# Altium integrated library Microchip PIC18.IntLib: 1897 symbols (part 12 of 110)
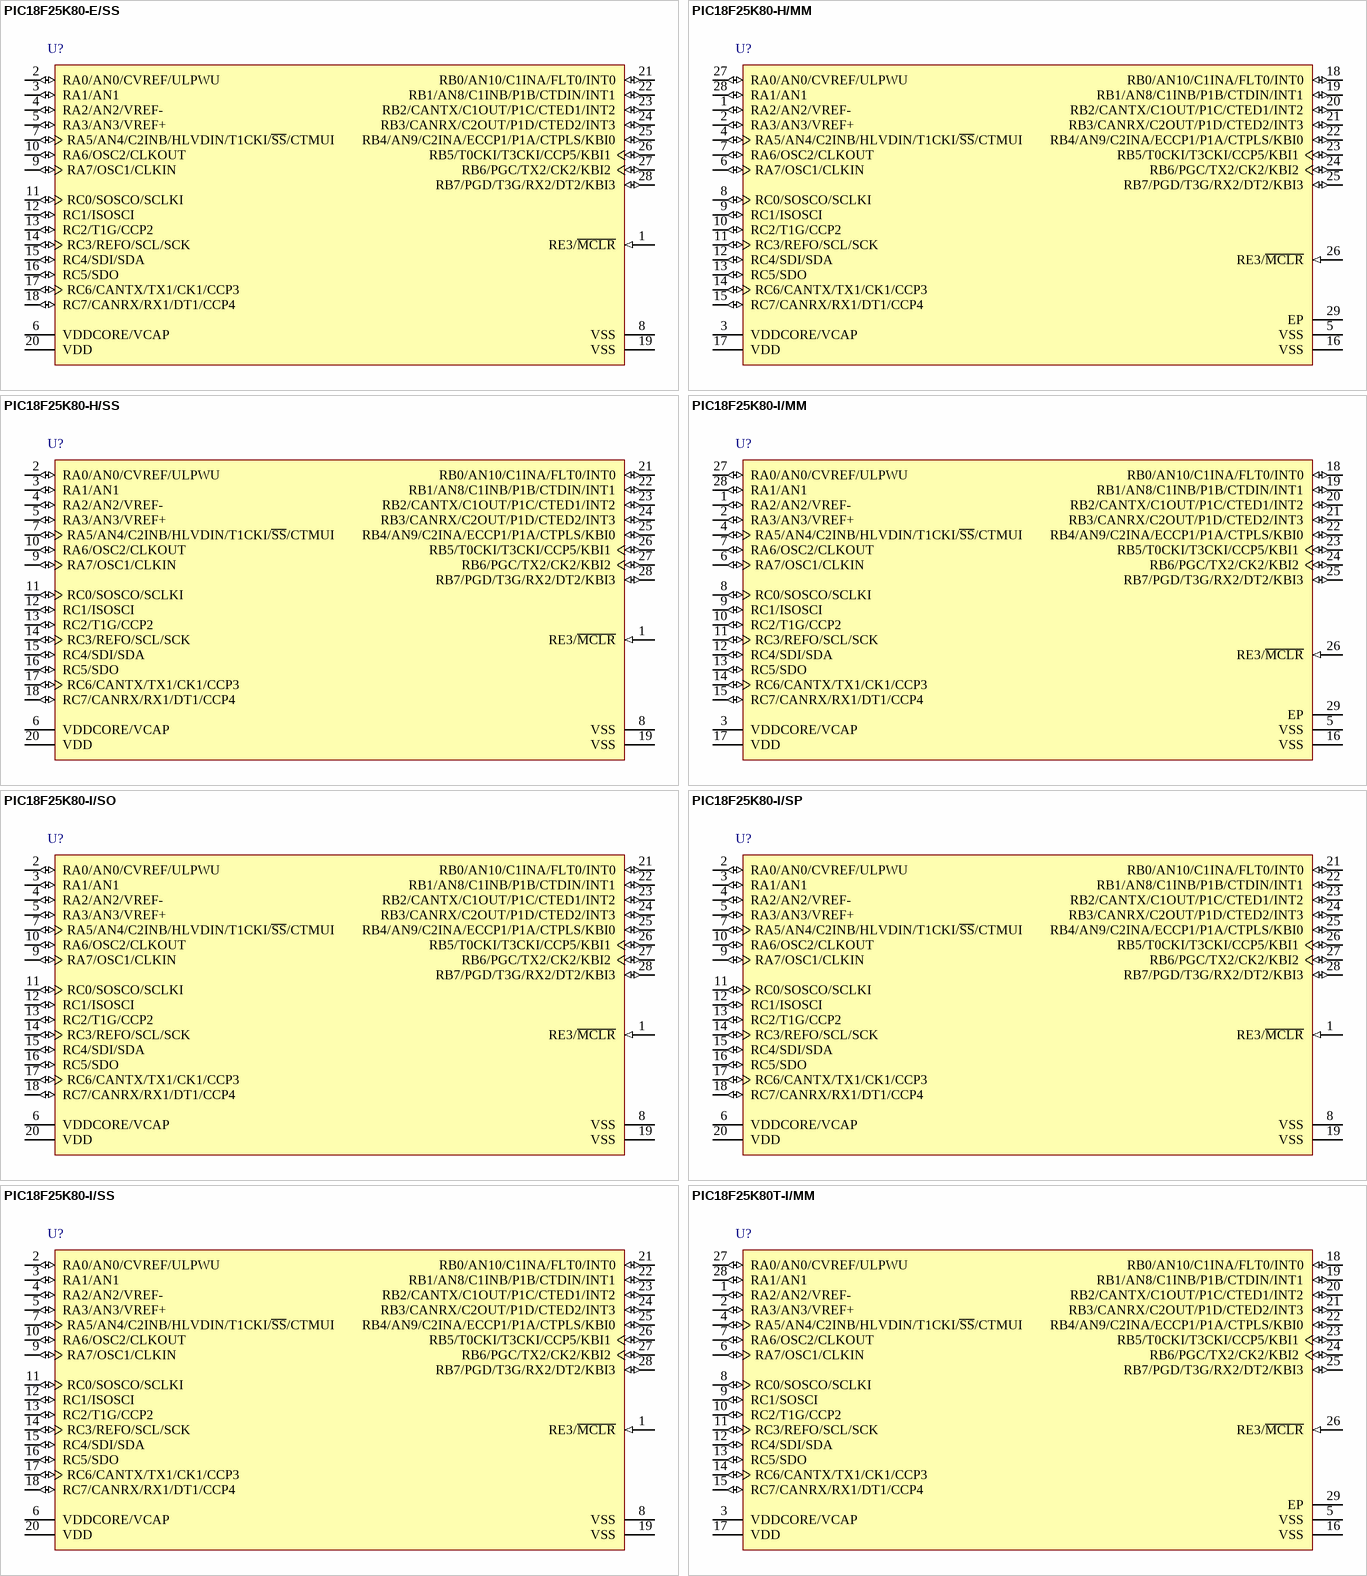
[diagram p328: symbols PIC18F25K80-E/SS to PIC18F25K80T-I/MM]

## PIC18F25K80-I/SO
designator U?
Enhanced Flash Microcontroller with ECAN(TM) and nanoWatt XLP Technology, 64 MHz, 24 I/O, -40 to 85 degC, 28-pin SOIC (SO28), Tube; Manufacturer: Microchip; PartNumber: PIC18F25K80-I/SO; # of A/D Channels: 8; Digital Communication: 2 -A/E/USART, 1 -MSSP(SPI/I2C); EEPROM Data Memory (bytes): 1024; I/O Pins: 24; Internal Oscillator: 16 MHz, 31 kHz; Max. CPU Speed MHz: 64; Operation Voltage Range: 1.8V - 5.5V; Program Memory KBytes: 32; Program Memory KWords: 16; RAM: 3648; Timers: 2 - 8-bit, 3 - 16-bit; DatasheetVersion: Rev. F; PackageVersion: C04-052C, 12/2012; PackageReference: SOIC-SO28; PackageDescription: 28-Lead Plastic Small Outline, 17.9 x 7.5 mm Body, 1.27 mm Pitch; Supplier 1: Digi-Key; Supplier Part Number 1: PIC18F25K80-I/SO-ND; Supplier 2: Farnell; Supplier Part Number 2: 1823159; Supplier 3: Newark; Supplier Part Number 3: 76R6675; Supplier 4: Mouser; Supplier Part Number 4: 579-PIC18F25K80-I/SO; Memory Type: Flash; Packing: TUBE; RoHS: TRUE; Mounting Technology: Surface Mount; ComponentLink1Description: Datasheet; ComponentLink1URL: http://ww1.microchip.com/downloads/en/DeviceDoc/39977f.pdf; ComponentLink2Description: Package Specification; ComponentLink2URL: http://www.microchip.com/stellent/groups/techpub_sg/documents/packagingspec/en012702.pdf; ComponentLink3Description: URL Link1; ComponentLink3URL: Product URL:http://www.microchip.com/datasheet/PIC18F25K80
footprint MCHP-SOIC-SO28_N (SOIC, 28-Leads, Body 17.9x7.5mm, Pitch 1.27mm, IPC Medium Density)
footprint MCHP-SOIC-SO28_L (SOIC, 28-Leads, Body 17.9x7.5mm, Pitch 1.27mm, IPC High Density)
footprint MCHP-SOIC-SO28_M (SOIC, 28-Leads, Body 17.9x7.5mm, Pitch 1.27mm, IPC Low Density)
pins: 1 RE3/~{MCLR} (in), 2 RA0/AN0/CVREF/ULPWU (io), 3 RA1/AN1 (io), 4 RA2/AN2/VREF- (io), 5 RA3/AN3/VREF+ (io), 6 VDDCORE/VCAP (power), 7 RA5/AN4/C2INB/HLVDIN/T1CKI/~{SS}/CTMUI (io), 8 VSS (power) "Ground reference for logic and I/O pins.", 9 RA7/OSC1/CLKIN (io), 10 RA6/OSC2/CLKOUT (io), 11 RC0/SOSCO/SCLKI (io), 12 RC1/ISOSCI (io), 13 RC2/T1G/CCP2 (io), 14 RC3/REFO/SCL/SCK (io), 15 RC4/SDI/SDA (io), 16 RC5/SDO (io), 17 RC6/CANTX/TX1/CK1/CCP3 (io), 18 RC7/CANRX/RX1/DT1/CCP4 (io), 19 VSS (power) "Ground reference for logic and I/O pins.", 20 VDD (power) "Positive supply for logic and I/O pins.", 21 RB0/AN10/C1INA/FLT0/INT0 (io), 22 RB1/AN8/C1INB/P1B/CTDIN/INT1 (io), 23 RB2/CANTX/C1OUT/P1C/CTED1/INT2 (io), 24 RB3/CANRX/C2OUT/P1D/CTED2/INT3 (io), 25 RB4/AN9/C2INA/ECCP1/P1A/CTPLS/KBI0 (io), 26 RB5/T0CKI/T3CKI/CCP5/KBI1 (io), 27 RB6/PGC/TX2/CK2/KBI2 (io), 28 RB7/PGD/T3G/RX2/DT2/KBI3 (io)

## PIC18F25K80-I/SP
designator U?
Enhanced Flash Microcontroller with ECAN(TM) and nanoWatt XLP Technology, 64 MHz, 24 I/O, -40 to 85 degC, 28-pin SPDIP (SP28), Tube; Manufacturer: Microchip; PartNumber: PIC18F25K80-I/SP; # of A/D Channels: 8; Digital Communication: 2 -A/E/USART, 1 -MSSP(SPI/I2C); EEPROM Data Memory (bytes): 1024; I/O Pins: 24; Internal Oscillator: 16 MHz, 31 kHz; Max. CPU Speed MHz: 64; Operation Voltage Range: 1.8V - 5.5V; Program Memory KBytes: 32; Program Memory KWords: 16; RAM: 3648; Timers: 2 - 8-bit, 3 - 16-bit; DatasheetVersion: Rev. F; PackageVersion: C04-070B, 12/2012; PackageReference: SPDIP-SP28; PackageDescription: 28-Lead Plastic Dual In-Line, 34.86 x 6.79 mm Body, 2.54 mm Pitch; Supplier 1: Digi-Key; Supplier Part Number 1: PIC18F25K80-I/SP-ND; Supplier 2: Farnell; Supplier Part Number 2: 1823160; Supplier 3: Newark; Supplier Part Number 3: 76R6676; Supplier 4: Newark; Supplier Part Number 4: 82T9594; Supplier 5: Mouser; Supplier Part Number 5: 579-PIC18F25K80-I/SP; Memory Type: Flash; Packing: TUBE; RoHS: TRUE; Mounting Technology: Through Hole; ComponentLink1Description: Datasheet; ComponentLink1URL: http://ww1.microchip.com/downloads/en/DeviceDoc/39977f.pdf; ComponentLink2Description: Package Specification; ComponentLink2URL: http://www.microchip.com/stellent/groups/techpub_sg/documents/packagingspec/en012702.pdf; ComponentLink3Description: URL Link1; ComponentLink3URL: Product URL:http://www.microchip.com/datasheet/PIC18F25K80
footprint MCHP-SPDIP-SP28 (DIP, 28-Leads, Body 34.86x6.79mm, Pitch 2.54mm)
pins: 1 RE3/~{MCLR} (in), 2 RA0/AN0/CVREF/ULPWU (io), 3 RA1/AN1 (io), 4 RA2/AN2/VREF- (io), 5 RA3/AN3/VREF+ (io), 6 VDDCORE/VCAP (power), 7 RA5/AN4/C2INB/HLVDIN/T1CKI/~{SS}/CTMUI (io), 8 VSS (power) "Ground reference for logic and I/O pins.", 9 RA7/OSC1/CLKIN (io), 10 RA6/OSC2/CLKOUT (io), 11 RC0/SOSCO/SCLKI (io), 12 RC1/ISOSCI (io), 13 RC2/T1G/CCP2 (io), 14 RC3/REFO/SCL/SCK (io), 15 RC4/SDI/SDA (io), 16 RC5/SDO (io), 17 RC6/CANTX/TX1/CK1/CCP3 (io), 18 RC7/CANRX/RX1/DT1/CCP4 (io), 19 VSS (power) "Ground reference for logic and I/O pins.", 20 VDD (power) "Positive supply for logic and I/O pins.", 21 RB0/AN10/C1INA/FLT0/INT0 (io), 22 RB1/AN8/C1INB/P1B/CTDIN/INT1 (io), 23 RB2/CANTX/C1OUT/P1C/CTED1/INT2 (io), 24 RB3/CANRX/C2OUT/P1D/CTED2/INT3 (io), 25 RB4/AN9/C2INA/ECCP1/P1A/CTPLS/KBI0 (io), 26 RB5/T0CKI/T3CKI/CCP5/KBI1 (io), 27 RB6/PGC/TX2/CK2/KBI2 (io), 28 RB7/PGD/T3G/RX2/DT2/KBI3 (io)

## PIC18F25K80-I/SS
designator U?
Enhanced Flash Microcontroller with ECAN(TM) and nanoWatt XLP Technology, 64 MHz, 24 I/O, -40 to 85 degC, 28-pin SSOP (SS28), Tube; Manufacturer: Microchip; PartNumber: PIC18F25K80-I/SS; # of A/D Channels: 8; Digital Communication: 2 -A/E/USART, 1 -MSSP(SPI/I2C); EEPROM Data Memory (bytes): 1024; I/O Pins: 24; Internal Oscillator: 16 MHz, 31 kHz; Max. CPU Speed MHz: 64; Operation Voltage Range: 1.8V - 5.5V; Program Memory KBytes: 32; Program Memory KWords: 16; RAM: 3648; Timers: 2 - 8-bit, 3 - 16-bit; DatasheetVersion: Rev. F; PackageVersion: C04-073B, 12/2012; PackageReference: SSOP-SS28; PackageDescription: 28-Lead Plastic Shrink Small Outline, 10.2 x 5.3 mm Body, 0.65 mm Pitch; Supplier 1: Digi-Key; Supplier Part Number 1: PIC18F25K80-I/SS-ND; Supplier 2: Farnell; Supplier Part Number 2: 1823161; Supplier 3: Newark; Supplier Part Number 3: 76R6677; Supplier 4: Newark; Supplier Part Number 4: 55T3694; Supplier 5: Mouser; Supplier Part Number 5: 579-PIC18F25K80-I/SS; Memory Type: Flash; Packing: TUBE; RoHS: TRUE; Mounting Technology: Surface Mount; ComponentLink1Description: Datasheet; ComponentLink1URL: http://ww1.microchip.com/downloads/en/DeviceDoc/39977f.pdf; ComponentLink2Description: Package Specification; ComponentLink2URL: http://www.microchip.com/stellent/groups/techpub_sg/documents/packagingspec/en012702.pdf; ComponentLink3Description: URL Link1; ComponentLink3URL: Product URL:http://www.microchip.com/datasheet/PIC18F25K80
footprint MCHP-SSOP-SS28_N (SOP, 28-Leads, Body 10.2x5.3mm, Pitch 0.65mm, IPC Medium Density)
footprint MCHP-SSOP-SS28_L (SOP, 28-Leads, Body 10.2x5.3mm, Pitch 0.65mm, IPC High Density)
footprint MCHP-SSOP-SS28_M (SOP, 28-Leads, Body 10.2x5.3mm, Pitch 0.65mm, IPC Low Density)
pins: 1 RE3/~{MCLR} (in), 2 RA0/AN0/CVREF/ULPWU (io), 3 RA1/AN1 (io), 4 RA2/AN2/VREF- (io), 5 RA3/AN3/VREF+ (io), 6 VDDCORE/VCAP (power), 7 RA5/AN4/C2INB/HLVDIN/T1CKI/~{SS}/CTMUI (io), 8 VSS (power) "Ground reference for logic and I/O pins.", 9 RA7/OSC1/CLKIN (io), 10 RA6/OSC2/CLKOUT (io), 11 RC0/SOSCO/SCLKI (io), 12 RC1/ISOSCI (io), 13 RC2/T1G/CCP2 (io), 14 RC3/REFO/SCL/SCK (io), 15 RC4/SDI/SDA (io), 16 RC5/SDO (io), 17 RC6/CANTX/TX1/CK1/CCP3 (io), 18 RC7/CANRX/RX1/DT1/CCP4 (io), 19 VSS (power) "Ground reference for logic and I/O pins.", 20 VDD (power) "Positive supply for logic and I/O pins.", 21 RB0/AN10/C1INA/FLT0/INT0 (io), 22 RB1/AN8/C1INB/P1B/CTDIN/INT1 (io), 23 RB2/CANTX/C1OUT/P1C/CTED1/INT2 (io), 24 RB3/CANRX/C2OUT/P1D/CTED2/INT3 (io), 25 RB4/AN9/C2INA/ECCP1/P1A/CTPLS/KBI0 (io), 26 RB5/T0CKI/T3CKI/CCP5/KBI1 (io), 27 RB6/PGC/TX2/CK2/KBI2 (io), 28 RB7/PGD/T3G/RX2/DT2/KBI3 (io)

## PIC18F25K80T-I/MM
designator U?
Enhanced Flash Microcontroller with ECAN(TM) and nanoWatt XLP Technology, 64 MHz, 24 I/O, -40 to 85 degC, 28-pin QFN (MM28), Tape and Reel; Manufacturer: Microchip; PartNumber: PIC18F25K80T-I/MM; # of A/D Channels: 8; Digital Communication: 2 -A/E/USART, 1 -MSSP(SPI/I2C); EEPROM Data Memory (bytes): 1024; I/O Pins: 24; Internal Oscillator: 16 MHz, 31 kHz; Max. CPU Speed MHz: 64; Operation Voltage Range: 1.8V - 5.5V; Packing: T/R; Program Memory KBytes: 32; Program Memory KWords: 16; RAM: 3648; Timers: 2 - 8-bit, 3 - 16-bit; DatasheetVersion: Rev. F; PackageVersion: C04-124C, 12/2012; PackageReference: QFN-MM28; PackageDescription: 28-Lead Plastic Quad Flat, 6 x 6 mm Body, 0.65 mm Pitch; Supplier 1: Digi-Key; Supplier Part Number 1: PIC18F25K80T-I/MM-ND; Supplier 2: Mouser; Supplier Part Number 2: 579-PIC18F25K80T-IMM; Memory Type: Flash; RoHS: TRUE; Mounting Technology: Surface Mount; ComponentLink1Description: Datasheet; ComponentLink1URL: http://ww1.microchip.com/downloads/en/DeviceDoc/39977f.pdf; ComponentLink2Description: Package Specification; ComponentLink2URL: http://www.microchip.com/stellent/groups/techpub_sg/documents/packagingspec/en012702.pdf; ComponentLink3Description: URL Link1; ComponentLink3URL: Product URL:http://www.microchip.com/datasheet/PIC18F25K80
footprint MCHP-QFN-S-MM28_N (QFN, 28-Leads, Body 6x6mm, Pitch 0.65mm, Thermal Pad 4.175x4.175mm, IPC Medium Density)
footprint MCHP-QFN-S-MM28_L (QFN, 28-Leads, Body 6x6mm, Pitch 0.65mm, Thermal Pad 4.175x4.175mm, IPC High Density)
footprint MCHP-QFN-S-MM28_M (QFN, 28-Leads, Body 6x6mm, Pitch 0.65mm, Thermal Pad 4.175x4.175mm, IPC Low Density)
pins: 1 RA2/AN2/VREF- (io), 2 RA3/AN3/VREF+ (io), 3 VDDCORE/VCAP (power), 4 RA5/AN4/C2INB/HLVDIN/T1CKI/~{SS}/CTMUI (io), 5 VSS (power) "Ground reference for logic and I/O pins.", 6 RA7/OSC1/CLKIN (io), 7 RA6/OSC2/CLKOUT (io), 8 RC0/SOSCO/SCLKI (io), 9 RC1/SOSCI (io), 10 RC2/T1G/CCP2 (io), 11 RC3/REFO/SCL/SCK (io), 12 RC4/SDI/SDA (io), 13 RC5/SDO (io), 14 RC6/CANTX/TX1/CK1/CCP3 (io), 15 RC7/CANRX/RX1/DT1/CCP4 (io), 16 VSS (power) "Ground reference for logic and I/O pins.", 17 VDD (power) "Positive supply for logic and I/O pins.", 18 RB0/AN10/C1INA/FLT0/INT0 (io), 19 RB1/AN8/C1INB/P1B/CTDIN/INT1 (io), 20 RB2/CANTX/C1OUT/P1C/CTED1/INT2 (io), 21 RB3/CANRX/C2OUT/P1D/CTED2/INT3 (io), 22 RB4/AN9/C2INA/ECCP1/P1A/CTPLS/KBI0 (io), 23 RB5/T0CKI/T3CKI/CCP5/KBI1 (io), 24 RB6/PGC/TX2/CK2/KBI2 (io), 25 RB7/PGD/T3G/RX2/DT2/KBI3 (io), 26 RE3/~{MCLR} (in), 27 RA0/AN0/CVREF/ULPWU (io), 28 RA1/AN1 (io), 29 EP (power)

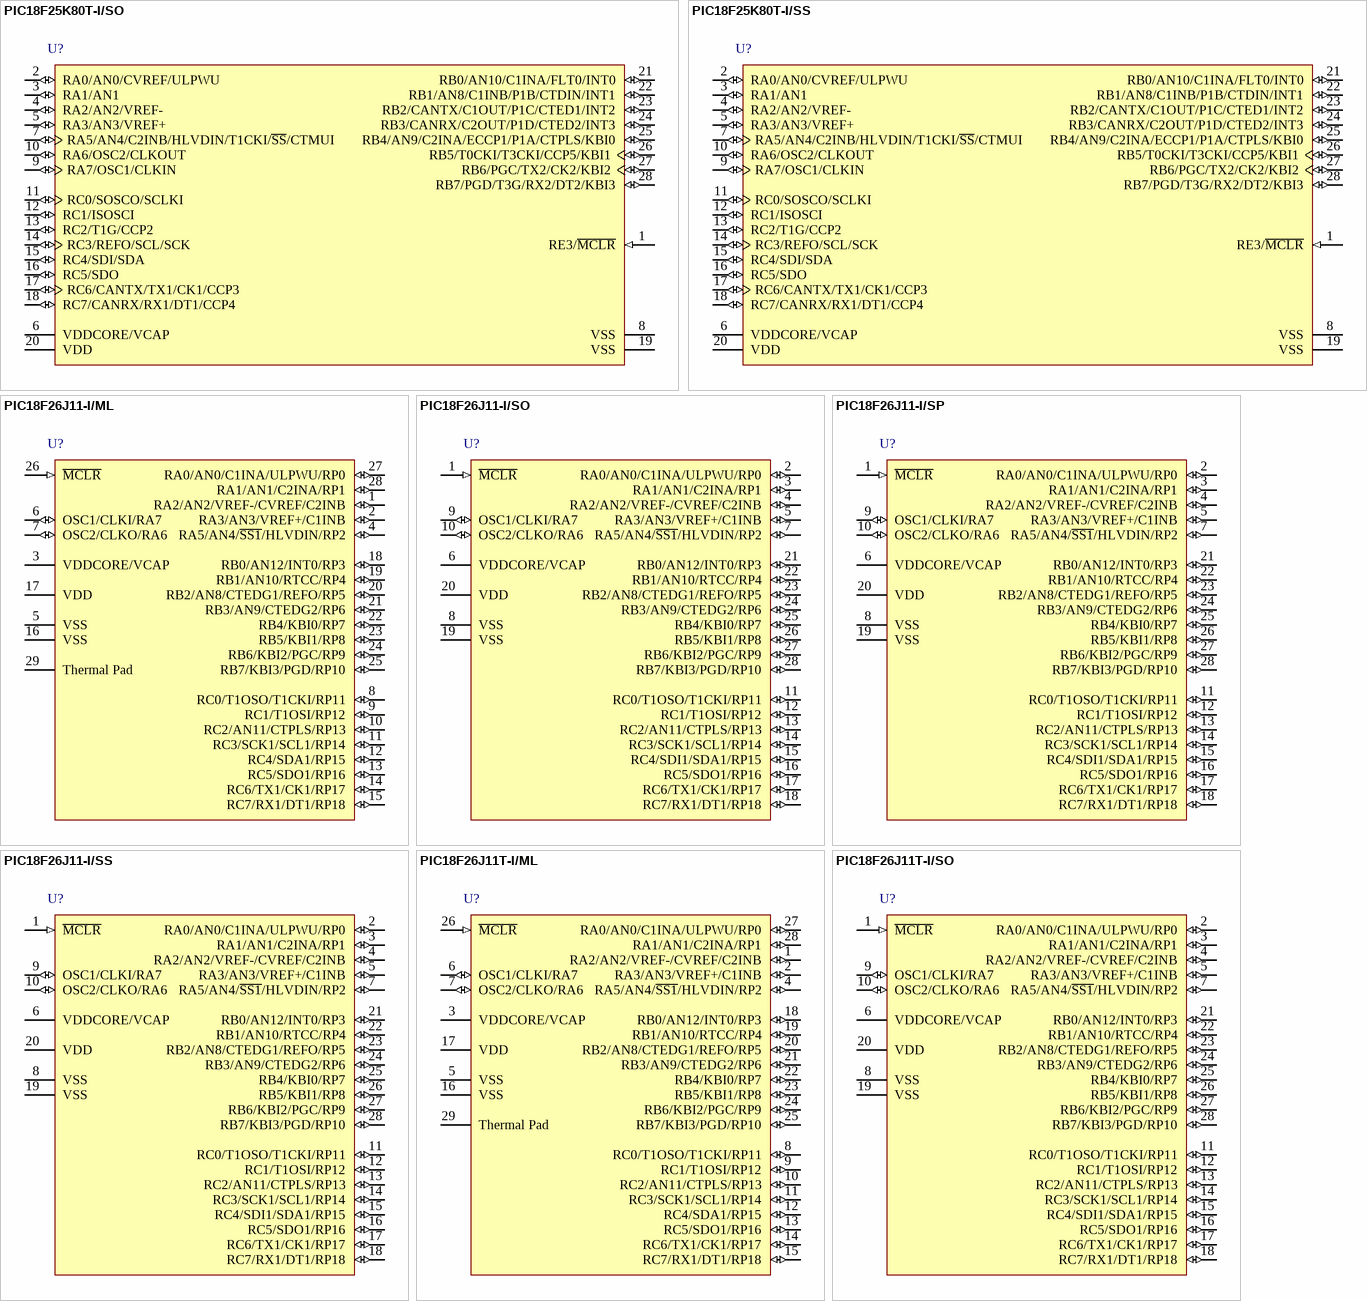
[diagram p17: symbols PIC18F25K80T-I/SO to PIC18F26J11T-I/SO]

## PIC18F25K80T-I/SO
designator U?
Enhanced Flash Microcontroller with ECAN(TM) and nanoWatt XLP Technology, 64 MHz, 24 I/O, -40 to 85 degC, 28-pin SOIC (SO28), Tape and Reel; Manufacturer: Microchip; PartNumber: PIC18F25K80T-I/SO; # of A/D Channels: 8; Digital Communication: 2 -A/E/USART, 1 -MSSP(SPI/I2C); EEPROM Data Memory (bytes): 1024; I/O Pins: 24; Internal Oscillator: 16 MHz, 31 kHz; Max. CPU Speed MHz: 64; Operation Voltage Range: 1.8V - 5.5V; Packing: T/R; Program Memory KBytes: 32; Program Memory KWords: 16; RAM: 3648; Timers: 2 - 8-bit, 3 - 16-bit; DatasheetVersion: Rev. F; PackageVersion: C04-052C, 12/2012; PackageReference: SOIC-SO28; PackageDescription: 28-Lead Plastic Small Outline, 17.9 x 7.5 mm Body, 1.27 mm Pitch; Supplier 1: Digi-Key; Supplier Part Number 1: PIC18F25K80T-I/SO-ND; Supplier 2: Mouser; Supplier Part Number 2: 579-PIC18F25K80TI/SO; Memory Type: Flash; RoHS: TRUE; Mounting Technology: Surface Mount; ComponentLink1Description: Datasheet; ComponentLink1URL: http://ww1.microchip.com/downloads/en/DeviceDoc/39977f.pdf; ComponentLink2Description: Package Specification; ComponentLink2URL: http://www.microchip.com/stellent/groups/techpub_sg/documents/packagingspec/en012702.pdf; ComponentLink3Description: URL Link1; ComponentLink3URL: Product URL:http://www.microchip.com/datasheet/PIC18F25K80
footprint MCHP-SOIC-SO28_N (SOIC, 28-Leads, Body 17.9x7.5mm, Pitch 1.27mm, IPC Medium Density)
footprint MCHP-SOIC-SO28_L (SOIC, 28-Leads, Body 17.9x7.5mm, Pitch 1.27mm, IPC High Density)
footprint MCHP-SOIC-SO28_M (SOIC, 28-Leads, Body 17.9x7.5mm, Pitch 1.27mm, IPC Low Density)
pins: 1 RE3/~{MCLR} (in), 2 RA0/AN0/CVREF/ULPWU (io), 3 RA1/AN1 (io), 4 RA2/AN2/VREF- (io), 5 RA3/AN3/VREF+ (io), 6 VDDCORE/VCAP (power), 7 RA5/AN4/C2INB/HLVDIN/T1CKI/~{SS}/CTMUI (io), 8 VSS (power) "Ground reference for logic and I/O pins.", 9 RA7/OSC1/CLKIN (io), 10 RA6/OSC2/CLKOUT (io), 11 RC0/SOSCO/SCLKI (io), 12 RC1/ISOSCI (io), 13 RC2/T1G/CCP2 (io), 14 RC3/REFO/SCL/SCK (io), 15 RC4/SDI/SDA (io), 16 RC5/SDO (io), 17 RC6/CANTX/TX1/CK1/CCP3 (io), 18 RC7/CANRX/RX1/DT1/CCP4 (io), 19 VSS (power) "Ground reference for logic and I/O pins.", 20 VDD (power) "Positive supply for logic and I/O pins.", 21 RB0/AN10/C1INA/FLT0/INT0 (io), 22 RB1/AN8/C1INB/P1B/CTDIN/INT1 (io), 23 RB2/CANTX/C1OUT/P1C/CTED1/INT2 (io), 24 RB3/CANRX/C2OUT/P1D/CTED2/INT3 (io), 25 RB4/AN9/C2INA/ECCP1/P1A/CTPLS/KBI0 (io), 26 RB5/T0CKI/T3CKI/CCP5/KBI1 (io), 27 RB6/PGC/TX2/CK2/KBI2 (io), 28 RB7/PGD/T3G/RX2/DT2/KBI3 (io)

## PIC18F25K80T-I/SS
designator U?
Enhanced Flash Microcontroller with ECAN(TM) and nanoWatt XLP Technology, 64 MHz, 24 I/O, -40 to 85 degC, 28-pin SSOP (SS28), Tape and Reel; Manufacturer: Microchip; PartNumber: PIC18F25K80T-I/SS; # of A/D Channels: 8; Digital Communication: 2 -A/E/USART, 1 -MSSP(SPI/I2C); EEPROM Data Memory (bytes): 1024; I/O Pins: 24; Internal Oscillator: 16 MHz, 31 kHz; Max. CPU Speed MHz: 64; Operation Voltage Range: 1.8V - 5.5V; Packing: T/R; Program Memory KBytes: 32; Program Memory KWords: 16; RAM: 3648; Timers: 2 - 8-bit, 3 - 16-bit; DatasheetVersion: Rev. F; PackageVersion: C04-073B, 12/2012; PackageReference: SSOP-SS28; PackageDescription: 28-Lead Plastic Shrink Small Outline, 10.2 x 5.3 mm Body, 0.65 mm Pitch; Supplier 1: Digi-Key; Supplier Part Number 1: PIC18F25K80T-I/SS-ND; Supplier 2: Newark; Supplier Part Number 2: 76R6680; Supplier 3: Mouser; Supplier Part Number 3: 579-PIC18F25K80TI/SS; Memory Type: Flash; RoHS: TRUE; Mounting Technology: Surface Mount; ComponentLink1Description: Datasheet; ComponentLink1URL: http://ww1.microchip.com/downloads/en/DeviceDoc/39977f.pdf; ComponentLink2Description: Package Specification; ComponentLink2URL: http://www.microchip.com/stellent/groups/techpub_sg/documents/packagingspec/en012702.pdf; ComponentLink3Description: URL Link1; ComponentLink3URL: Product URL:http://www.microchip.com/datasheet/PIC18F25K80
footprint MCHP-SSOP-SS28_N (SOP, 28-Leads, Body 10.2x5.3mm, Pitch 0.65mm, IPC Medium Density)
footprint MCHP-SSOP-SS28_L (SOP, 28-Leads, Body 10.2x5.3mm, Pitch 0.65mm, IPC High Density)
footprint MCHP-SSOP-SS28_M (SOP, 28-Leads, Body 10.2x5.3mm, Pitch 0.65mm, IPC Low Density)
pins: 1 RE3/~{MCLR} (in), 2 RA0/AN0/CVREF/ULPWU (io), 3 RA1/AN1 (io), 4 RA2/AN2/VREF- (io), 5 RA3/AN3/VREF+ (io), 6 VDDCORE/VCAP (power), 7 RA5/AN4/C2INB/HLVDIN/T1CKI/~{SS}/CTMUI (io), 8 VSS (power) "Ground reference for logic and I/O pins.", 9 RA7/OSC1/CLKIN (io), 10 RA6/OSC2/CLKOUT (io), 11 RC0/SOSCO/SCLKI (io), 12 RC1/ISOSCI (io), 13 RC2/T1G/CCP2 (io), 14 RC3/REFO/SCL/SCK (io), 15 RC4/SDI/SDA (io), 16 RC5/SDO (io), 17 RC6/CANTX/TX1/CK1/CCP3 (io), 18 RC7/CANRX/RX1/DT1/CCP4 (io), 19 VSS (power) "Ground reference for logic and I/O pins.", 20 VDD (power) "Positive supply for logic and I/O pins.", 21 RB0/AN10/C1INA/FLT0/INT0 (io), 22 RB1/AN8/C1INB/P1B/CTDIN/INT1 (io), 23 RB2/CANTX/C1OUT/P1C/CTED1/INT2 (io), 24 RB3/CANRX/C2OUT/P1D/CTED2/INT3 (io), 25 RB4/AN9/C2INA/ECCP1/P1A/CTPLS/KBI0 (io), 26 RB5/T0CKI/T3CKI/CCP5/KBI1 (io), 27 RB6/PGC/TX2/CK2/KBI2 (io), 28 RB7/PGD/T3G/RX2/DT2/KBI3 (io)

## PIC18F26J11-I/ML
designator U?
Low Power, High Performance Microcontroller with nanoWatt XLP Technology, 28-pin QFN, Industrial Temperature; Manufacturer: Microchip; PartNumber: PIC18F26J11-I/ML; DatasheetVersion: revC, Oct-2009; PackageVersion: C04-105C, 12/2012; PackageReference: QFN-ML28; PackageDescription: 28-Lead Plastic Quad Flat, 6 x 6 mm Body, 0.65 mm Pitch; ComponentLink1Description: Manufacturer URL; ComponentLink1URL: http://www.microchip.com/; ComponentLink2Description: Datasheet; ComponentLink2URL: http://ww1.microchip.com/downloads/en/DeviceDoc/39932c.pdf; ComponentLink3Description: Package Specification; ComponentLink3URL: http://www.microchip.com/stellent/groups/techpub_sg/documents/packagingspec/en012702.pdf
footprint MCHP-QFN-ML28_N (QFN, 28-Leads, Body 6x6mm, Pitch 0.65mm, Thermal Pad 3.7x3.7mm, IPC Medium Density)
footprint MCHP-QFN-ML28_L (QFN, 28-Leads, Body 6x6mm, Pitch 0.65mm, Thermal Pad 3.7x3.7mm, IPC High Density)
footprint MCHP-QFN-ML28_M (QFN, 28-Leads, Body 6x6mm, Pitch 0.65mm, Thermal Pad 3.7x3.7mm, IPC Low Density)
pins: 1 RA2/AN2/VREF-/CVREF/C2INB (io), 2 RA3/AN3/VREF+/C1INB (io), 3 VDDCORE/VCAP (power), 4 RA5/AN4/~{SS1}/HLVDIN/RP2 (io), 5 VSS (power), 6 OSC1/CLKI/RA7 (io), 7 OSC2/CLKO/RA6 (io), 8 RC0/T1OSO/T1CKI/RP11 (io), 9 RC1/T1OSI/RP12 (io), 10 RC2/AN11/CTPLS/RP13 (io), 11 RC3/SCK1/SCL1/RP14 (io), 12 RC4/SDA1/RP15 (io), 13 RC5/SDO1/RP16 (io), 14 RC6/TX1/CK1/RP17 (io), 15 RC7/RX1/DT1/RP18 (io), 16 VSS (power), 17 VDD (power), 18 RB0/AN12/INT0/RP3 (io), 19 RB1/AN10/RTCC/RP4 (io), 20 RB2/AN8/CTEDG1/REFO/RP5 (io), 21 RB3/AN9/CTEDG2/RP6 (io), 22 RB4/KBI0/RP7 (io), 23 RB5/KBI1/RP8 (io), 24 RB6/KBI2/PGC/RP9 (io), 25 RB7/KBI3/PGD/RP10 (io), 26 ~{MCLR} (in), 27 RA0/AN0/C1INA/ULPWU/RP0 (io), 28 RA1/AN1/C2INA/RP1 (io), 29 Thermal Pad (power)

## PIC18F26J11-I/SO
designator U?
Low Power, High Performance Microcontroller with nanoWatt XLP Technology, 28-pin SOIC, Industrial Temperature; Manufacturer: Microchip; PartNumber: PIC18F26J11-I/SO; DatasheetVersion: revC, Oct-2009; PackageVersion: C04-052C, 12/2012; PackageReference: SOIC-SO28; PackageDescription: 28-Lead Plastic Small Outline, 17.9 x 7.5 mm Body, 1.27 mm Pitch; ComponentLink1Description: Manufacturer URL; ComponentLink1URL: http://www.microchip.com/; ComponentLink2Description: Datasheet; ComponentLink2URL: http://ww1.microchip.com/downloads/en/DeviceDoc/39932c.pdf; ComponentLink3Description: Package Specification; ComponentLink3URL: http://www.microchip.com/stellent/groups/techpub_sg/documents/packagingspec/en012702.pdf
footprint MCHP-SOIC-SO28_N (SOIC, 28-Leads, Body 17.9x7.5mm, Pitch 1.27mm, IPC Medium Density)
footprint MCHP-SOIC-SO28_L (SOIC, 28-Leads, Body 17.9x7.5mm, Pitch 1.27mm, IPC High Density)
footprint MCHP-SOIC-SO28_M (SOIC, 28-Leads, Body 17.9x7.5mm, Pitch 1.27mm, IPC Low Density)
pins: 1 ~{MCLR} (in), 2 RA0/AN0/C1INA/ULPWU/RP0 (io), 3 RA1/AN1/C2INA/RP1 (io), 4 RA2/AN2/VREF-/CVREF/C2INB (io), 5 RA3/AN3/VREF+/C1INB (io), 6 VDDCORE/VCAP (power), 7 RA5/AN4/~{SS1}/HLVDIN/RP2 (io), 8 VSS (power), 9 OSC1/CLKI/RA7 (io), 10 OSC2/CLKO/RA6 (io), 11 RC0/T1OSO/T1CKI/RP11 (io), 12 RC1/T1OSI/RP12 (io), 13 RC2/AN11/CTPLS/RP13 (io), 14 RC3/SCK1/SCL1/RP14 (io), 15 RC4/SDI1/SDA1/RP15 (io), 16 RC5/SDO1/RP16 (io), 17 RC6/TX1/CK1/RP17 (io), 18 RC7/RX1/DT1/RP18 (io), 19 VSS (power), 20 VDD (power), 21 RB0/AN12/INT0/RP3 (io), 22 RB1/AN10/RTCC/RP4 (io), 23 RB2/AN8/CTEDG1/REFO/RP5 (io), 24 RB3/AN9/CTEDG2/RP6 (io), 25 RB4/KBI0/RP7 (io), 26 RB5/KBI1/RP8 (io), 27 RB6/KBI2/PGC/RP9 (io), 28 RB7/KBI3/PGD/RP10 (io)

## PIC18F26J11-I/SP
designator U?
Low Power, High Performance Microcontroller with nanoWatt XLP Technology, 28-pin SPDIP, Industrial Temperature; Manufacturer: Microchip; PartNumber: PIC18F26J11-I/SP; DatasheetVersion: revC, Oct-2009; PackageVersion: revBB, Aug-2009; PackageReference: SPDIP300-SP28; PackageDescription: 28-Lead Skinny Plastic Dual In-Line (SP) - 300 mil Body [SPDIP]; ComponentLink1Description: Manufacturer URL; ComponentLink1URL: http://www.microchip.com/; ComponentLink2Description: Datasheet; ComponentLink2URL: http://ww1.microchip.com/downloads/en/DeviceDoc/39932c.pdf; ComponentLink3Description: Package Specification; ComponentLink3URL: http://www.microchip.com/stellent/groups/techpub_sg/documents/packagingspec/en012702.pdf
footprint SPDIP300-SP28 (DIP, 28-Leads, Row Spacing 7.62mm, Pitch 2.54mm, Body 34.9x6.8mm)
pins: 1 ~{MCLR} (in), 2 RA0/AN0/C1INA/ULPWU/RP0 (io), 3 RA1/AN1/C2INA/RP1 (io), 4 RA2/AN2/VREF-/CVREF/C2INB (io), 5 RA3/AN3/VREF+/C1INB (io), 6 VDDCORE/VCAP (power), 7 RA5/AN4/~{SS1}/HLVDIN/RP2 (io), 8 VSS (power), 9 OSC1/CLKI/RA7 (io), 10 OSC2/CLKO/RA6 (io), 11 RC0/T1OSO/T1CKI/RP11 (io), 12 RC1/T1OSI/RP12 (io), 13 RC2/AN11/CTPLS/RP13 (io), 14 RC3/SCK1/SCL1/RP14 (io), 15 RC4/SDI1/SDA1/RP15 (io), 16 RC5/SDO1/RP16 (io), 17 RC6/TX1/CK1/RP17 (io), 18 RC7/RX1/DT1/RP18 (io), 19 VSS (power), 20 VDD (power), 21 RB0/AN12/INT0/RP3 (io), 22 RB1/AN10/RTCC/RP4 (io), 23 RB2/AN8/CTEDG1/REFO/RP5 (io), 24 RB3/AN9/CTEDG2/RP6 (io), 25 RB4/KBI0/RP7 (io), 26 RB5/KBI1/RP8 (io), 27 RB6/KBI2/PGC/RP9 (io), 28 RB7/KBI3/PGD/RP10 (io)

## PIC18F26J11-I/SS
designator U?
Low Power, High Performance Microcontroller with nanoWatt XLP Technology, 28-pin SSOP, Industrial Temperature; Manufacturer: Microchip; PartNumber: PIC18F26J11-I/SS; DatasheetVersion: revC, Oct-2009; PackageVersion: C04-073B, 12/2012; PackageReference: SSOP-SS28; PackageDescription: 28-Lead Plastic Shrink Small Outline, 10.2 x 5.3 mm Body, 0.65 mm Pitch; ComponentLink1Description: Manufacturer URL; ComponentLink1URL: http://www.microchip.com/; ComponentLink2Description: Datasheet; ComponentLink2URL: http://ww1.microchip.com/downloads/en/DeviceDoc/39932c.pdf; ComponentLink3Description: Package Specification; ComponentLink3URL: http://www.microchip.com/stellent/groups/techpub_sg/documents/packagingspec/en012702.pdf
footprint MCHP-SSOP-SS28_N (SOP, 28-Leads, Body 10.2x5.3mm, Pitch 0.65mm, IPC Medium Density)
footprint MCHP-SSOP-SS28_L (SOP, 28-Leads, Body 10.2x5.3mm, Pitch 0.65mm, IPC High Density)
footprint MCHP-SSOP-SS28_M (SOP, 28-Leads, Body 10.2x5.3mm, Pitch 0.65mm, IPC Low Density)
pins: 1 ~{MCLR} (in), 2 RA0/AN0/C1INA/ULPWU/RP0 (io), 3 RA1/AN1/C2INA/RP1 (io), 4 RA2/AN2/VREF-/CVREF/C2INB (io), 5 RA3/AN3/VREF+/C1INB (io), 6 VDDCORE/VCAP (power), 7 RA5/AN4/~{SS1}/HLVDIN/RP2 (io), 8 VSS (power), 9 OSC1/CLKI/RA7 (io), 10 OSC2/CLKO/RA6 (io), 11 RC0/T1OSO/T1CKI/RP11 (io), 12 RC1/T1OSI/RP12 (io), 13 RC2/AN11/CTPLS/RP13 (io), 14 RC3/SCK1/SCL1/RP14 (io), 15 RC4/SDI1/SDA1/RP15 (io), 16 RC5/SDO1/RP16 (io), 17 RC6/TX1/CK1/RP17 (io), 18 RC7/RX1/DT1/RP18 (io), 19 VSS (power), 20 VDD (power), 21 RB0/AN12/INT0/RP3 (io), 22 RB1/AN10/RTCC/RP4 (io), 23 RB2/AN8/CTEDG1/REFO/RP5 (io), 24 RB3/AN9/CTEDG2/RP6 (io), 25 RB4/KBI0/RP7 (io), 26 RB5/KBI1/RP8 (io), 27 RB6/KBI2/PGC/RP9 (io), 28 RB7/KBI3/PGD/RP10 (io)

## PIC18F26J11T-I/ML
designator U?
Low Power, High Performance Microcontroller with nanoWatt XLP Technology, 28-pin QFN, Industrial Temperature, Tape and Reel; Manufacturer: Microchip; PartNumber: PIC18F26J11T-I/ML; DatasheetVersion: revC, Oct-2009; PackageVersion: C04-105C, 12/2012; PackageReference: QFN-ML28; PackageDescription: 28-Lead Plastic Quad Flat, 6 x 6 mm Body, 0.65 mm Pitch; ComponentLink1Description: Manufacturer URL; ComponentLink1URL: http://www.microchip.com/; ComponentLink2Description: Datasheet; ComponentLink2URL: http://ww1.microchip.com/downloads/en/DeviceDoc/39932c.pdf; ComponentLink3Description: Package Specification; ComponentLink3URL: http://www.microchip.com/stellent/groups/techpub_sg/documents/packagingspec/en012702.pdf
footprint MCHP-QFN-ML28_N (QFN, 28-Leads, Body 6x6mm, Pitch 0.65mm, Thermal Pad 3.7x3.7mm, IPC Medium Density)
footprint MCHP-QFN-ML28_L (QFN, 28-Leads, Body 6x6mm, Pitch 0.65mm, Thermal Pad 3.7x3.7mm, IPC High Density)
footprint MCHP-QFN-ML28_M (QFN, 28-Leads, Body 6x6mm, Pitch 0.65mm, Thermal Pad 3.7x3.7mm, IPC Low Density)
pins: 1 RA2/AN2/VREF-/CVREF/C2INB (io), 2 RA3/AN3/VREF+/C1INB (io), 3 VDDCORE/VCAP (power), 4 RA5/AN4/~{SS1}/HLVDIN/RP2 (io), 5 VSS (power), 6 OSC1/CLKI/RA7 (io), 7 OSC2/CLKO/RA6 (io), 8 RC0/T1OSO/T1CKI/RP11 (io), 9 RC1/T1OSI/RP12 (io), 10 RC2/AN11/CTPLS/RP13 (io), 11 RC3/SCK1/SCL1/RP14 (io), 12 RC4/SDA1/RP15 (io), 13 RC5/SDO1/RP16 (io), 14 RC6/TX1/CK1/RP17 (io), 15 RC7/RX1/DT1/RP18 (io), 16 VSS (power), 17 VDD (power), 18 RB0/AN12/INT0/RP3 (io), 19 RB1/AN10/RTCC/RP4 (io), 20 RB2/AN8/CTEDG1/REFO/RP5 (io), 21 RB3/AN9/CTEDG2/RP6 (io), 22 RB4/KBI0/RP7 (io), 23 RB5/KBI1/RP8 (io), 24 RB6/KBI2/PGC/RP9 (io), 25 RB7/KBI3/PGD/RP10 (io), 26 ~{MCLR} (in), 27 RA0/AN0/C1INA/ULPWU/RP0 (io), 28 RA1/AN1/C2INA/RP1 (io), 29 Thermal Pad (power)

## PIC18F26J11T-I/SO
designator U?
Low Power, High Performance Microcontroller with nanoWatt XLP Technology, 28-pin SOIC, Industrial Temperature, Tape and Reel; Manufacturer: Microchip; PartNumber: PIC18F26J11T-I/SO; DatasheetVersion: revC, Oct-2009; PackageVersion: C04-052C, 12/2012; PackageReference: SOIC-SO28; PackageDescription: 28-Lead Plastic Small Outline, 17.9 x 7.5 mm Body, 1.27 mm Pitch; ComponentLink1Description: Manufacturer URL; ComponentLink1URL: http://www.microchip.com/; ComponentLink2Description: Datasheet; ComponentLink2URL: http://ww1.microchip.com/downloads/en/DeviceDoc/39932c.pdf; ComponentLink3Description: Package Specification; ComponentLink3URL: http://www.microchip.com/stellent/groups/techpub_sg/documents/packagingspec/en012702.pdf
footprint MCHP-SOIC-SO28_N (SOIC, 28-Leads, Body 17.9x7.5mm, Pitch 1.27mm, IPC Medium Density)
footprint MCHP-SOIC-SO28_L (SOIC, 28-Leads, Body 17.9x7.5mm, Pitch 1.27mm, IPC High Density)
footprint MCHP-SOIC-SO28_M (SOIC, 28-Leads, Body 17.9x7.5mm, Pitch 1.27mm, IPC Low Density)
pins: 1 ~{MCLR} (in), 2 RA0/AN0/C1INA/ULPWU/RP0 (io), 3 RA1/AN1/C2INA/RP1 (io), 4 RA2/AN2/VREF-/CVREF/C2INB (io), 5 RA3/AN3/VREF+/C1INB (io), 6 VDDCORE/VCAP (power), 7 RA5/AN4/~{SS1}/HLVDIN/RP2 (io), 8 VSS (power), 9 OSC1/CLKI/RA7 (io), 10 OSC2/CLKO/RA6 (io), 11 RC0/T1OSO/T1CKI/RP11 (io), 12 RC1/T1OSI/RP12 (io), 13 RC2/AN11/CTPLS/RP13 (io), 14 RC3/SCK1/SCL1/RP14 (io), 15 RC4/SDI1/SDA1/RP15 (io), 16 RC5/SDO1/RP16 (io), 17 RC6/TX1/CK1/RP17 (io), 18 RC7/RX1/DT1/RP18 (io), 19 VSS (power), 20 VDD (power), 21 RB0/AN12/INT0/RP3 (io), 22 RB1/AN10/RTCC/RP4 (io), 23 RB2/AN8/CTEDG1/REFO/RP5 (io), 24 RB3/AN9/CTEDG2/RP6 (io), 25 RB4/KBI0/RP7 (io), 26 RB5/KBI1/RP8 (io), 27 RB6/KBI2/PGC/RP9 (io), 28 RB7/KBI3/PGD/RP10 (io)

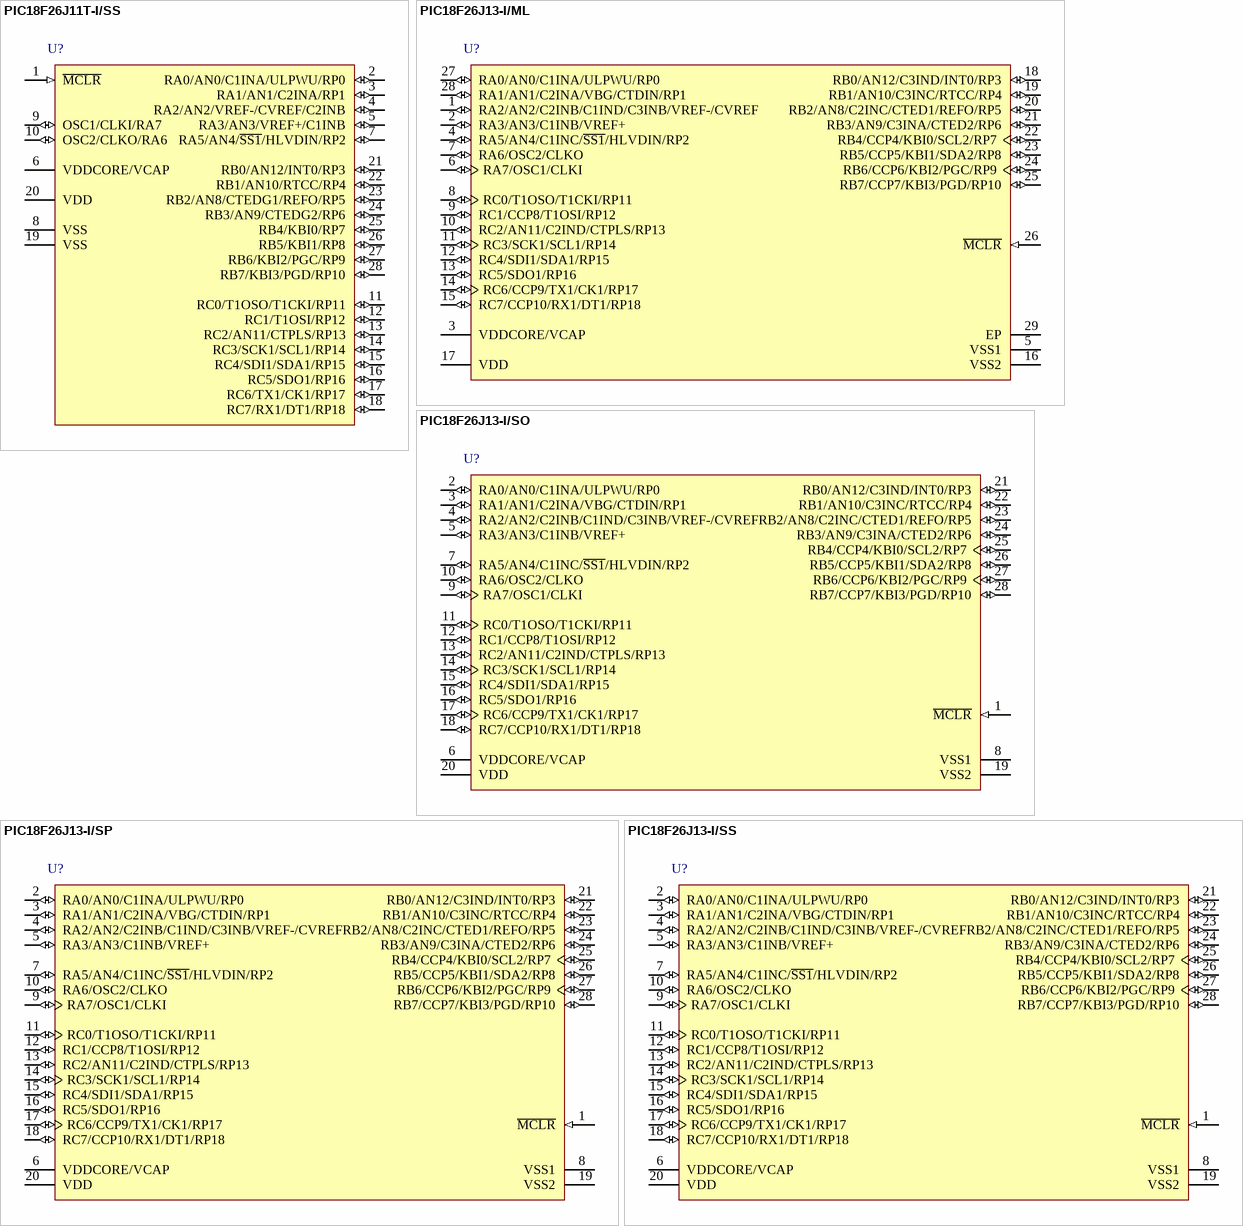
[diagram p18: symbols PIC18F26J11T-I/SS to PIC18F26J13-I/SS]

## PIC18F26J11T-I/SS
designator U?
Low Power, High Performance Microcontroller with nanoWatt XLP Technology, 28-pin SSOP, Industrial Temperature, Tape and Reel; Manufacturer: Microchip; PartNumber: PIC18F26J11T-I/SS; DatasheetVersion: revC, Oct-2009; PackageVersion: C04-073B, 12/2012; PackageReference: SSOP-SS28; PackageDescription: 28-Lead Plastic Shrink Small Outline, 10.2 x 5.3 mm Body, 0.65 mm Pitch; ComponentLink1Description: Manufacturer URL; ComponentLink1URL: http://www.microchip.com/; ComponentLink2Description: Datasheet; ComponentLink2URL: http://ww1.microchip.com/downloads/en/DeviceDoc/39932c.pdf; ComponentLink3Description: Package Specification; ComponentLink3URL: http://www.microchip.com/stellent/groups/techpub_sg/documents/packagingspec/en012702.pdf
footprint MCHP-SSOP-SS28_N (SOP, 28-Leads, Body 10.2x5.3mm, Pitch 0.65mm, IPC Medium Density)
footprint MCHP-SSOP-SS28_L (SOP, 28-Leads, Body 10.2x5.3mm, Pitch 0.65mm, IPC High Density)
footprint MCHP-SSOP-SS28_M (SOP, 28-Leads, Body 10.2x5.3mm, Pitch 0.65mm, IPC Low Density)
pins: 1 ~{MCLR} (in), 2 RA0/AN0/C1INA/ULPWU/RP0 (io), 3 RA1/AN1/C2INA/RP1 (io), 4 RA2/AN2/VREF-/CVREF/C2INB (io), 5 RA3/AN3/VREF+/C1INB (io), 6 VDDCORE/VCAP (power), 7 RA5/AN4/~{SS1}/HLVDIN/RP2 (io), 8 VSS (power), 9 OSC1/CLKI/RA7 (io), 10 OSC2/CLKO/RA6 (io), 11 RC0/T1OSO/T1CKI/RP11 (io), 12 RC1/T1OSI/RP12 (io), 13 RC2/AN11/CTPLS/RP13 (io), 14 RC3/SCK1/SCL1/RP14 (io), 15 RC4/SDI1/SDA1/RP15 (io), 16 RC5/SDO1/RP16 (io), 17 RC6/TX1/CK1/RP17 (io), 18 RC7/RX1/DT1/RP18 (io), 19 VSS (power), 20 VDD (power), 21 RB0/AN12/INT0/RP3 (io), 22 RB1/AN10/RTCC/RP4 (io), 23 RB2/AN8/CTEDG1/REFO/RP5 (io), 24 RB3/AN9/CTEDG2/RP6 (io), 25 RB4/KBI0/RP7 (io), 26 RB5/KBI1/RP8 (io), 27 RB6/KBI2/PGC/RP9 (io), 28 RB7/KBI3/PGD/RP10 (io)